# Altium footprint library G-BOX_V104a.PcbLib: 24 footprints (part 1 of 2)
Each footprint in its own frame and in the unit in brackets; x right, y up, seen from the top. Pads: shape width x height; smd on the part's side, far side on the other; paste and mask are expansions set on the pad; w line width, h text height; cw(c..) or ccw(c..) is an arc to the next point about the centre after c.
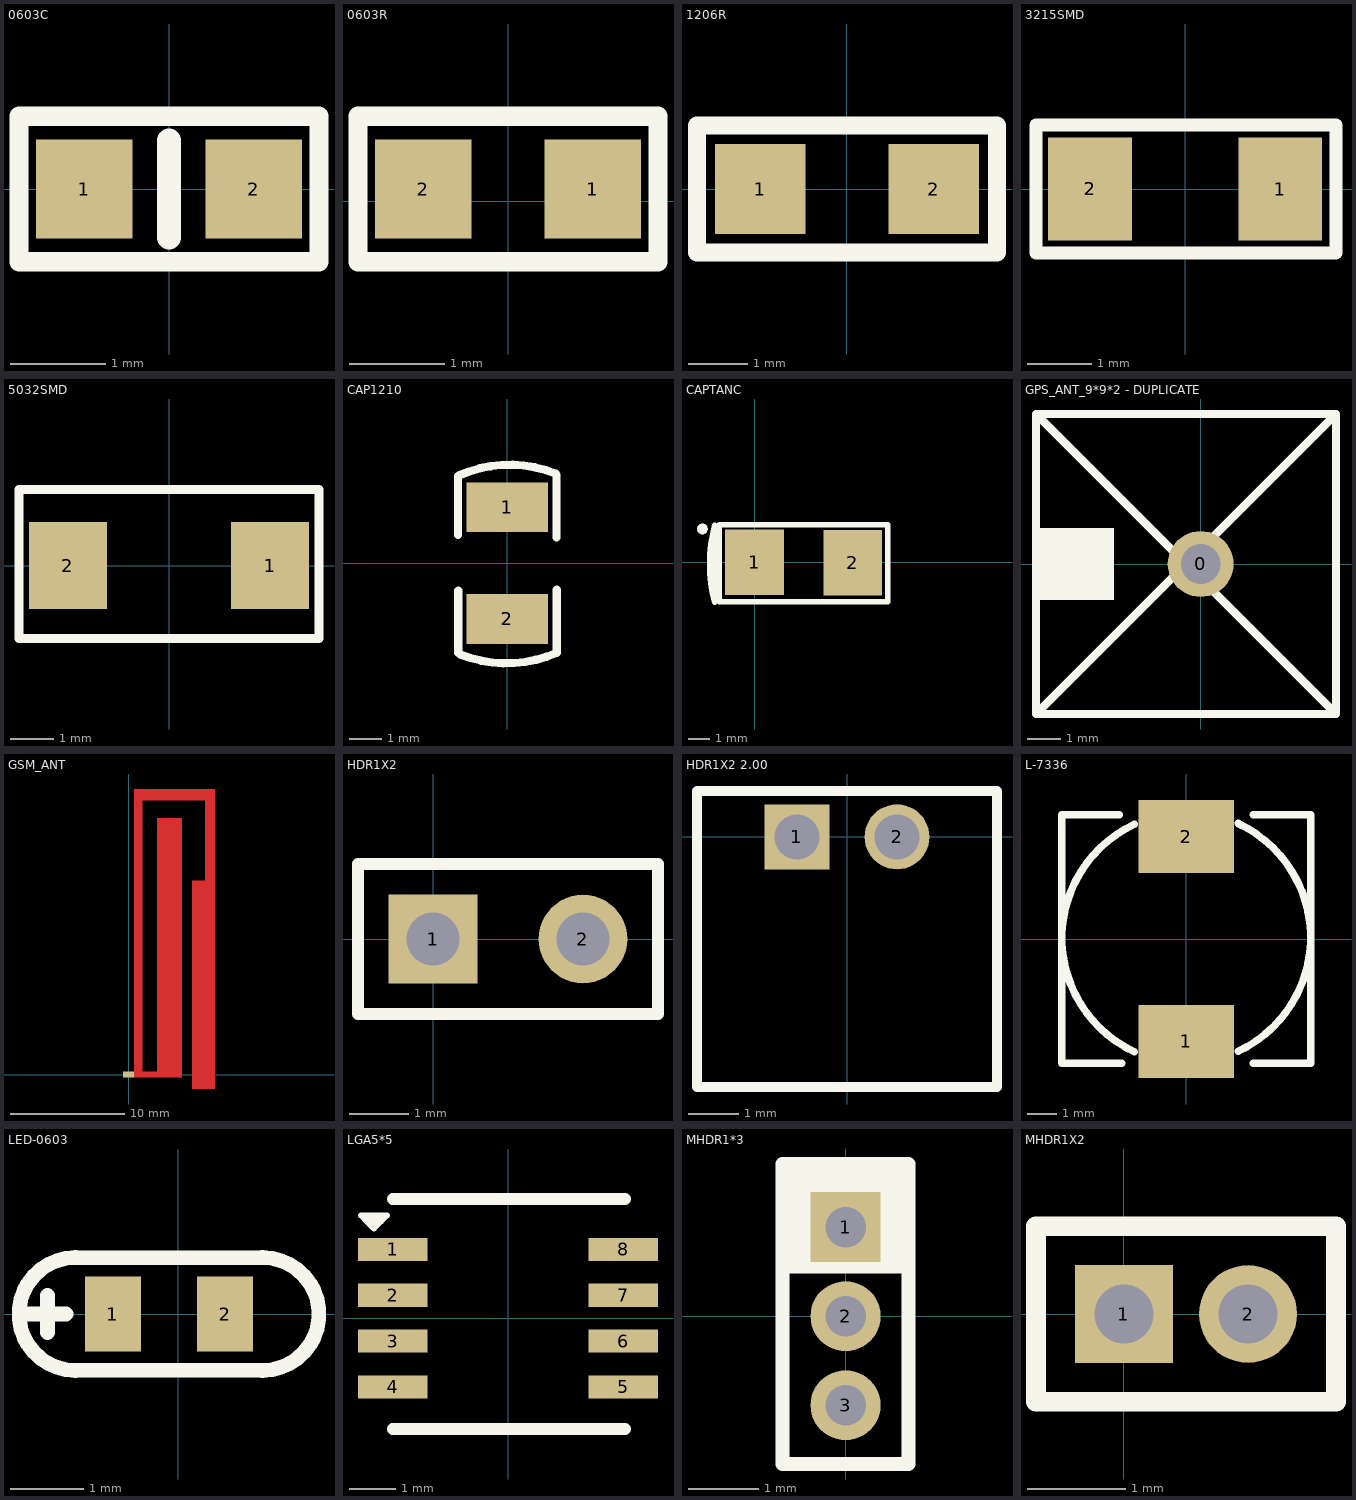
[diagram p0: the footprints below, top view; thin cyan lines are the x and y axes]

## 0603C [mil]
height 866.14
pads (2):
  rect 40x41 smd: 1(-35,0) 2(35,0)
Top Overlay:
  lines w8: -62,-30 62,-30 62,30 -62,30 -62,-30
  lines w10: 0,-20 0,20
3D body "User Library-cap_0603_lowprofile.STEP": height 23.62, standoff 0, extent -31.5,-15.75 31.5,15.75

## 0603R [mil]
pads (2):
  rect 40x41 smd: 1(35,5) 2(-35,5)
Top Overlay:
  lines w8: -62,-25 -62,35 62,35 62,-25 -62,-25
3D body "R0603.STEP": height 17.72, standoff 0, extent -31.5,-10.75 31.5,20.75

## 1206R [mil]
height 104.33
pads (2):
  rect 60x60 smd: 1(-57.5,0) 2(57.5,0)
Top Overlay:
  lines w12: 99.5,-42 -99.5,-42 -99.5,42 99.5,42 99.5,-41
3D body "User Library-RES1206.STEP": height 21.69, standoff 0, extent -62.99,-31.49 63,31.5

## 3215SMD [mm]
pads (2):
  rect 1.3x1.6 smd: 1(1.473,0) 2(-1.473,0)
Top Overlay:
  lines w0.203: -2.311,-0.991 2.337,-0.991 2.337,0.991 -2.311,0.991 -2.311,-0.991
3D body "SX3215.step": height 0.81, standoff 0, extent -1.6,-0.75 1.6,0.75

## 5032SMD [mm]
height 5.08
pads (2):
  rect 1.8x2 smd: 1(2.328,0) 2(-2.328,0)
Top Overlay:
  lines w0.203: -3.454,-1.676 -3.454,1.753 3.454,1.753 3.454,-1.676 -3.454,-1.676
3D body "5032.step": height 1.35, standoff 0, extent -2.475,-1.549 2.525,1.651

## CAP1210 [mm]
pads (2):
  rect 2.5x1.52 smd: 1(0,1.71) 2(0,-1.71)
Top Overlay:
  lines w0.254: -1.51,0.864 -1.51,2.676 ; -1.499,-2.743 -1.499,-0.838 ; -1.483,2.689 cw(c0.071,-0.802) 1.499,2.743 ; -1.443,-2.795 ccw(c-0.021,0.752) 1.524,-2.743 1.524,-0.813 ; 1.513,0.787 1.513,2.712
3D body "User Library-cap1210.STEP": height 0.95, standoff -0.01, extent -1.318,-2.128 1.382,2.072

## CAPTANC [mm]
height 2.65
pads (3):
  rect 2.7x3 smd: 1(0,0) 2(4.502,-0.025)
  round 0.5 on Top Overlay: ""(-2.388,1.524)
Top Overlay:
  lines w0.254: -1.854,-1.678 -1.854,1.422 ; -1.827,-1.833 cw(c4.525,-0.081) -1.817,1.706 ; -1.626,-1.805 -1.626,1.702 -1.599,1.729 6.096,1.729 6.096,-1.802 -1.626,-1.805
3D body "User Library-AVX_C_CASE.STEP": height 2.7, standoff 0, extent -0.84,-1.802 5.26,1.548

## GPS_ANT_9*9*2 - DUPLICATE [mm]
pads (1):
  round 2 hole 1.2: 0(0,0)
Top Overlay:
  rectangle: -4.993,-1.092 -2.631,1.092
  lines w0.254: 4.107,4.506 4.107,-4.55 ; -4.993,-4.55 -4.993,4.55 ; -4.993,-4.55 4.107,-4.55 ; -4.993,-4.55 4.107,4.55 -4.993,4.55 ; -4.993,4.55 4.107,-4.55

## GSM_ANT [mm]
pads (1):
  rect 1x0.508 smd: 1(0,0)
Top Layer:
  rectangle: 0.483,-0.192 1.245,24.996
  rectangle: 0.483,-0.252 4.648,0.256
  rectangle: 5.563,-1.268 7.595,17.02
  rectangle: 2.515,-0.252 4.674,22.481
  rectangle: 0.483,24.005 7.595,25.021
  rectangle: 6.706,15.877 7.595,25.021

## HDR1X2 [mm] "Connector; Header; 2 Position"
height 5.08
pads (2):
  rect 1.5x1.5 hole 0.9: 1(0,0)
  round 1.5 hole 0.9: 2(2.54,0)
Top Overlay:
  lines w0.2: -1.27,-1.27 3.81,-1.27 3.81,1.27 -1.27,1.27 -1.27,-1.27

## HDR1X2 2.00 [mm] "Connector; Header; 2 Position"
height 5.08
pads (2):
  rect 1.3x1.3 hole 0.9: 1(-1,0)
  round 1.3 hole 0.9: 2(1,0)
Top Overlay:
  lines w0.2: -3,-5 3,-5 ; -3,-4.978 -3,0.914 3,0.914 3,-4.953

## L-7336 [mm]
pads (2):
  rect 3.25x2.5 smd: 1(0,-3.5) 2(0,3.5)
Top Overlay:
  lines w0.254: -2.29,4.25 -4.25,4.25 -4.25,-4.25 -2.206,-4.25 ; -1.774,-3.853 cw(c0.038,0.033) -1.774,3.919 ; 1.769,-3.84 ccw(c-0.046,0.054) 1.769,3.949 ; 2.282,-4.25 4.25,-4.25 4.25,4.25 2.282,4.25
3D body "MSS7336-DEFAULT1.step": height 3.5, standoff -0.1, extent -3.64,-3.66 3.65,3.65

## LED-0603 [mil]
height 866.14
pads (2):
  rect 30x40 smd: 1(-35,0) 2(25,0)
Top Overlay:
  lines w7.87: -55,-30.14 cw(c-55,0) -55,30.14 ; -55,-30 45,-30 ; -55,30 45,30 ; 45,-30.14 ccw(c45,0) 45,30.14
  lines w8: -80,0 -60,0 ; -70,-10 -70,10
3D body "User Library-led_0603LED0603 green.STEP": height 23.62, standoff 0, extent -36.89,-15.75 26.9,15.75

## LGA5*5 [mm]
pads (8):
  rect 1.5x0.5 smd: 1(-2.496,1.487) 2(-2.496,0.496) 3(-2.496,-0.496) 4(-2.496,-1.487) 5(2.496,-1.487) 6(2.496,-0.496) 7(2.496,0.496) 8(2.496,1.487)
Top Overlay:
  lines w0.127: -3.181,2.223 -2.623,2.223 -2.902,1.944 -3.181,2.223
  lines w0.13: -3.181,2.223 -3.054,2.096 -2.75,2.096 -2.623,2.223
  lines w0.254: -2.496,-2.398 2.534,-2.398 ; -2.496,2.58 2.534,2.58
3D body "QFN5x5_16pins.step": height 0.75, standoff 0, extent -2.52,-2.507 2.52,2.533

## MHDR1*3 [mm]
pads (3):
  rect 1x1 hole 0.58: 1(0,1.27)
  round 1 hole 0.58: 2(0,0) 3(0,-1.27)
Top Overlay:
  rectangle: -0.9,0.61 0.94,2.17
  lines w0.2: -0.9,-2.108 0.9,-2.108 0.9,2.17 -0.9,2.17 -0.9,-2.108

## MHDR1X2 [mm] "Connector; Header; 2 Position"
pads (2):
  rect 1x1 hole 0.6: 1(0,0)
  round 1 hole 0.6: 2(1.27,0)
Top Overlay:
  lines w0.2: -0.9,-0.9 -0.9,0.9 2.17,0.9 2.17,-0.9 -0.9,-0.9